# Altium footprint library SO16-150.PcbLib: 1 footprints
Each footprint in its own frame and in the unit in brackets; x right, y up, seen from the top. Pads: shape width x height; smd on the part's side, far side on the other; paste and mask are expansions set on the pad; w line width, h text height; cw(c..) or ccw(c..) is an arc to the next point about the centre after c.
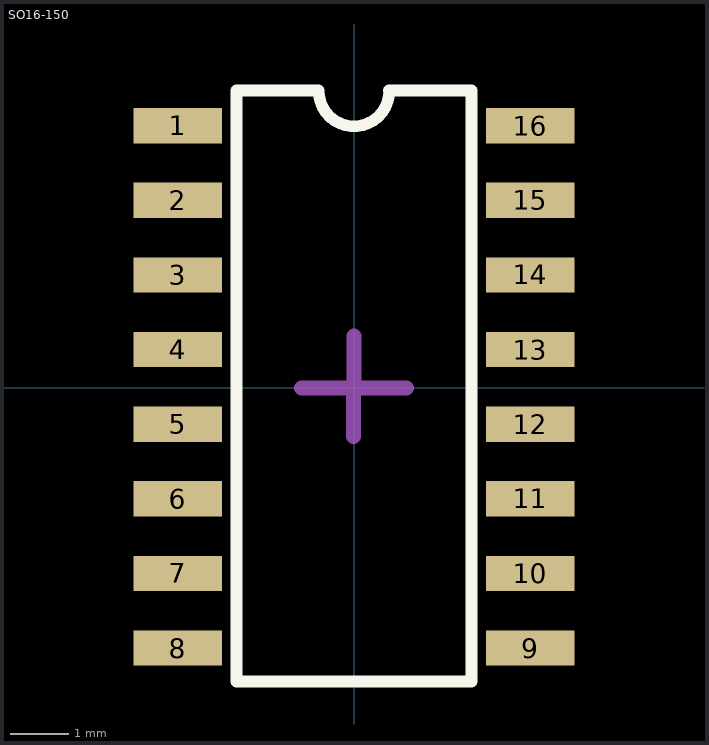
[diagram p0: the footprint, top view; thin cyan lines are the x and y axes]

## SO16-150 [mm]
pads (16):
  rect 1.5x0.6 smd: 1(-3,4.46) 2(-3,3.19) 3(-3,1.92) 4(-3,0.65) 5(-3,-0.62) 6(-3,-1.89) 7(-3,-3.16) 8(-3,-4.43) 9(3,-4.43) 10(3,-3.16) 11(3,-1.89) 12(3,-0.62) 13(3,0.65) 14(3,1.92) 15(3,3.19) 16(3,4.46)
Top Overlay:
  lines w0.2: -0.605,5.06 -2,5.06 -2,-5 2,-5 2,5.06 0.595,5.06 ; -0.6,5.05 ccw(c0,5.05) 0.6,5.05
Top Assembly:
  lines w0.1: 0.6,5.05 cw(c0,5.05) -0.6,5.05 ; 0.6,5.065 0.635,5.1 2,5.1 2,-5 -2,-5 -2,5.05 -0.6,5.05 ; -0.6,5.05 -0.6,5.05
  text "'.Designator'" at -0.85,-0.375 h0.7
Top TopCourtyard/BotCourtyard (Mech15):
  lines w0.254: -0.893,0 0,0 ; -0.011,-0.827 -0.011,0.055 ; 0,0.882 0,0 ; 0.893,0 0,0
3D body "User Library-so16-1.step": height 1.78, standoff 0.01, extent -3.069,-4.985 3.068,4.985